# Altium footprint library 3.贴片芯片封装.PcbLib: 26 footprints (part 2 of 2)
Each footprint in its own frame and in the unit in brackets; x right, y up, seen from the top. Pads: shape width x height; smd on the part's side, far side on the other; paste and mask are expansions set on the pad; w line width, h text height; cw(c..) or ccw(c..) is an arc to the next point about the centre after c.
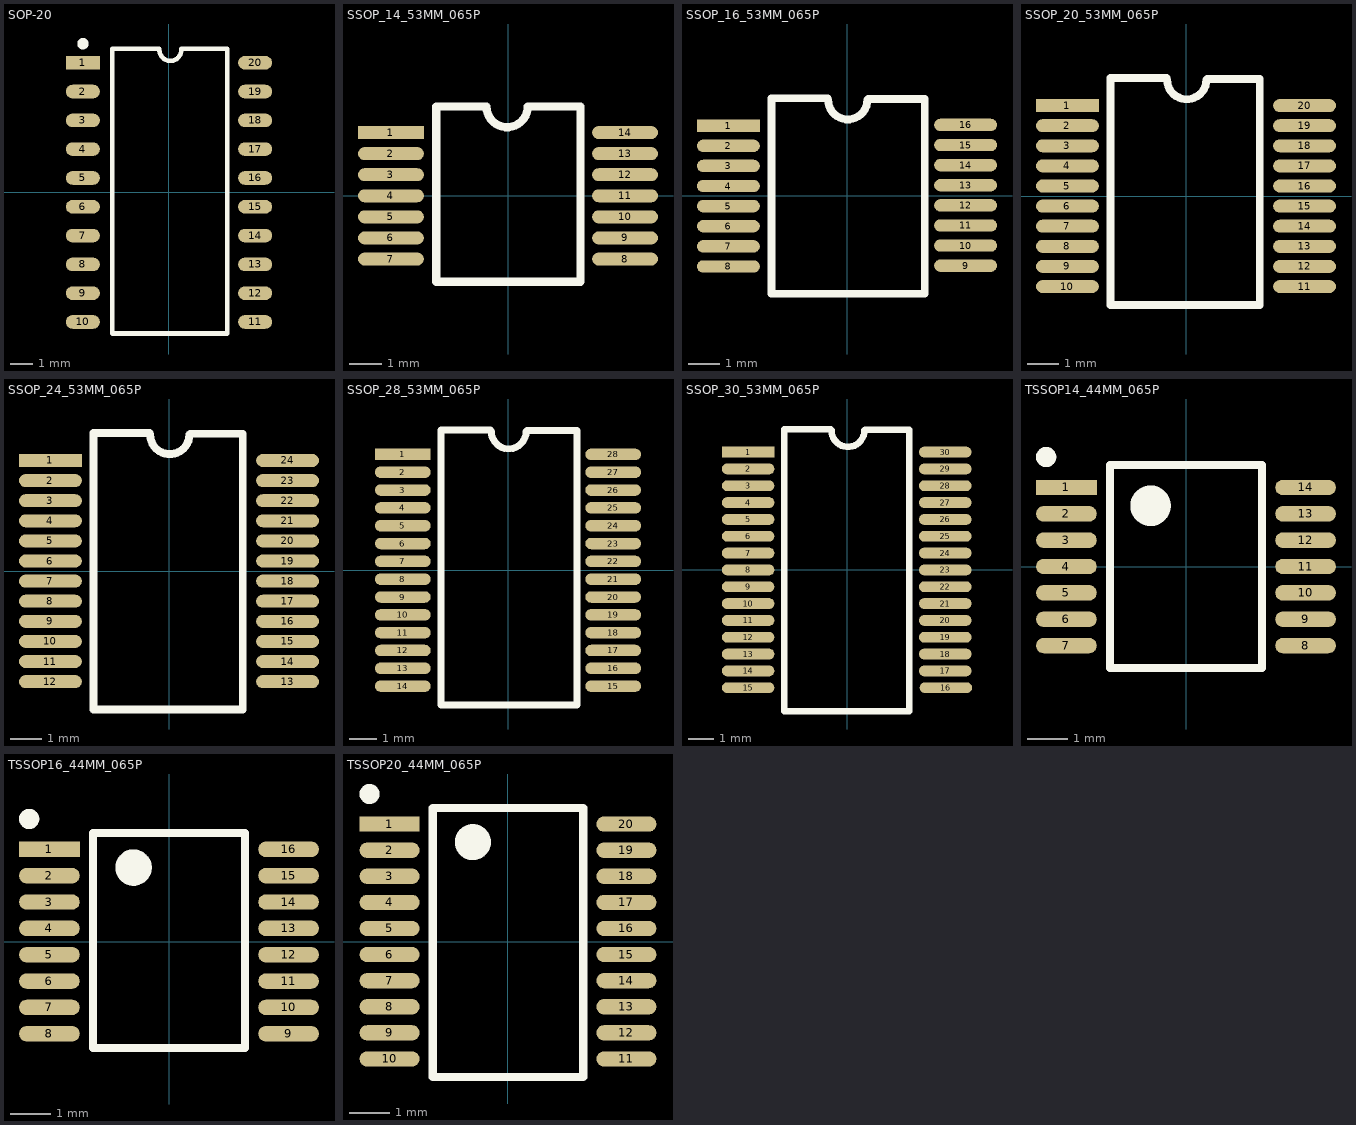
[diagram p1: the footprints below, top view; thin cyan lines are the x and y axes]

## SOP-20 [mm]
pads (20):
  rect 1.5x0.6 smd: 1(-3.8,5.715)
  oval 1.5x0.6 smd: 2(-3.8,4.445) 3(-3.8,3.175) 4(-3.8,1.905) 5(-3.8,0.635) 6(-3.8,-0.635) 7(-3.8,-1.905) 8(-3.8,-3.175) 9(-3.8,-4.445) 10(-3.8,-5.715) 11(3.8,-5.715) 12(3.8,-4.445) 13(3.8,-3.175) 14(3.8,-1.905) 15(3.8,-0.635) 16(3.8,0.635) 17(3.8,1.905) 18(3.8,3.175) 19(3.8,4.445) 20(3.8,5.715)
Top Overlay:
  circle w0.25: c-3.795,6.553 r0.125
  lines w0.2: -0.422,6.299 ccw(c0.061,6.278) 0.543,6.299 ; -0.422,6.325 -2.505,6.325 -2.505,-6.223 2.575,-6.223 2.575,6.325 0.543,6.325

## SSOP_14_53MM_065P [mm]
pads (14):
  rect 2.032x0.4 smd: 1(-3.61,1.95)
  oval 2.032x0.4 smd: 2(-3.61,1.3) 3(-3.61,0.65) 4(-3.61,0) 5(-3.61,-0.65) 6(-3.61,-1.3) 7(-3.61,-1.95) 8(3.61,-1.95) 9(3.61,-1.3) 10(3.61,-0.65) 11(3.61,0) 12(3.61,0.65) 13(3.61,1.3) 14(3.61,1.95)
Top Overlay:
  lines w0.254: -2.215,2.75 -0.663,2.75 ccw(c-0.028,2.75) 0.607,2.75 ; -2.213,-2.65 -2.213,2.75 ; -2.208,-2.65 2.232,-2.65 2.232,2.75 0.637,2.75

## SSOP_16_53MM_065P [mil]
pads (16):
  rect 80x15.75 smd: 1(-151,89.1)
  oval 80x15.75 smd: 2(-151,63.5) 3(-151,37.9) 4(-151,12.3) 5(-151,-13.3) 6(-151,-38.9) 7(-151,-64.5) 8(-151,-90.1) 9(151,-89.1) 10(151,-63.5) 11(151,-37.9) 12(151,-12.3) 13(151,13.3) 14(151,38.9) 15(151,64.5) 16(151,90.1)
Top Overlay:
  lines w10: -25,124.1 -96,124.1 -96,-124.9 99,-124.9 99,123.1 27,123.1 ; -24,122.1 ccw(c1,122.1) 26,122.1

## SSOP_20_53MM_065P [mil]
pads (20):
  rect 80x16.54 smd: 1(-151,115.2)
  oval 80x16.54 smd: 2(-151,89.6) 3(-151,64) 4(-151,38.4) 5(-151,12.8) 6(-151,-12.8) 7(-151,-38.4) 8(-151,-64) 9(-151,-89.6) 10(-151,-115.2) 11(151,-115.2) 12(151,-89.6) 13(151,-64) 14(151,-38.4) 15(151,-12.8) 16(151,12.8) 17(151,38.4) 18(151,64) 19(151,89.6) 20(151,115.2)
Top Overlay:
  lines w10: -25,150.2 -96,150.2 -96,-138.8 94,-138.8 94,149.2 27,149.2 ; -24,148.2 ccw(c1,148.2) 26,148.2

## SSOP_24_53MM_065P [mil]
pads (24):
  rect 80x16.54 smd: 1(-151,140.8)
  oval 80x16.54 smd: 2(-151,115.2) 3(-151,89.6) 4(-151,64) 5(-151,38.4) 6(-151,12.8) 7(-151,-12.8) 8(-151,-38.4) 9(-151,-64) 10(-151,-89.6) 11(-151,-115.2) 12(-151,-140.8) 13(151,-140.8) 14(151,-115.2) 15(151,-89.6) 16(151,-64) 17(151,-38.4) 18(151,-12.8) 19(151,12.8) 20(151,38.4) 21(151,64) 22(151,89.6) 23(151,115.2) 24(151,140.8)
Top Overlay:
  lines w10: -25,175.8 -96,175.8 -96,-176.2 94,-176.2 94,174.8 27,174.8 ; -24,173.8 ccw(c1,173.8) 26,173.8

## SSOP_28_53MM_065P [mil]
pads (28):
  rect 80x16.54 smd: 1(-151,166.4)
  oval 80x16.54 smd: 2(-151,140.8) 3(-151,115.2) 4(-151,89.6) 5(-151,64) 6(-151,38.4) 7(-151,12.8) 8(-151,-12.8) 9(-151,-38.4) 10(-151,-64) 11(-151,-89.6) 12(-151,-115.2) 13(-151,-140.8) 14(-151,-166.4) 15(151,-166.4) 16(151,-140.8) 17(151,-115.2) 18(151,-89.6) 19(151,-64) 20(151,-38.4) 21(151,-12.8) 22(151,12.8) 23(151,38.4) 24(151,64) 25(151,89.6) 26(151,115.2) 27(151,140.8) 28(151,166.4)
Top Overlay:
  lines w10: -25,201.4 -96,201.4 -96,-193.6 99,-193.6 99,200.4 27,200.4 ; -24,199.4 ccw(c1,199.4) 26,199.4

## SSOP_30_53MM_065P [mil]
pads (30):
  rect 80x16.54 smd: 1(-150.5,179.2)
  oval 80x16.54 smd: 2(-150.5,153.6) 3(-150.5,128) 4(-150.5,102.4) 5(-150.5,76.8) 6(-150.5,51.2) 7(-150.5,25.6) 8(-150.5,0) 9(-150.5,-25.6) 10(-150.5,-51.2) 11(-150.5,-76.8) 12(-150.5,-102.4) 13(-150.5,-128) 14(-150.5,-153.6) 15(-150.5,-179.2) 16(150.5,-179.2) 17(149.5,-153.6) 18(149.5,-128) 19(149.5,-102.4) 20(149.5,-76.8) 21(149.5,-51.2) 22(149.5,-25.6) 23(149.5,0) 24(149.5,25.6) 25(149.5,51.2) 26(149.5,76.8) 27(149.5,102.4) 28(149.5,128) 29(149.5,153.6) 30(149.5,179.2)
Top Overlay:
  lines w10: -24.5,214.2 -95.5,214.2 -95.5,-214.8 94.5,-214.8 94.5,213.2 27.5,213.2 ; -23.5,212.2 ccw(c1.5,212.2) 26.5,212.2

## TSSOP14_44MM_065P [mm]
pads (14):
  rect 1.5x0.38 smd: 1(-2.95,1.95)
  oval 1.5x0.38 smd: 2(-2.95,1.3) 3(-2.95,0.65) 4(-2.95,0) 5(-2.95,-0.65) 6(-2.95,-1.3) 7(-2.95,-1.95) 8(2.95,-1.95) 9(2.95,-1.3) 10(2.95,-0.65) 11(2.95,0) 12(2.95,0.65) 13(2.95,1.3) 14(2.95,1.95)
Top Overlay:
  circle w0.5: c-0.875,1.5 r0.25
  circle w0.25: c-3.45,2.7 r0.125
  lines w0.2: -1.875,-2.5 1.875,-2.5 1.875,2.5 -1.875,2.5 -1.875,-2.5

## TSSOP16_44MM_065P [mm]
pads (16):
  rect 1.5x0.38 smd: 1(-2.95,2.275)
  oval 1.5x0.38 smd: 2(-2.95,1.625) 3(-2.95,0.975) 4(-2.95,0.325) 5(-2.95,-0.325) 6(-2.95,-0.975) 7(-2.95,-1.625) 8(-2.95,-2.275) 9(2.95,-2.275) 10(2.95,-1.625) 11(2.95,-0.975) 12(2.95,-0.325) 13(2.95,0.325) 14(2.95,0.975) 15(2.95,1.625) 16(2.95,2.275)
Top Overlay:
  circle w0.25: c-3.45,3.025 r0.125
  circle w0.5: c-0.875,1.825 r0.2
  lines w0.2: -1.875,-2.625 -1.875,2.675 1.875,2.675 1.875,-2.625 -1.875,-2.625

## TSSOP20_44MM_065P [mm]
pads (20):
  rect 1.5x0.38 smd: 1(-2.95,2.925)
  oval 1.5x0.38 smd: 2(-2.95,2.275) 3(-2.95,1.625) 4(-2.95,0.975) 5(-2.95,0.325) 6(-2.95,-0.325) 7(-2.95,-0.975) 8(-2.95,-1.625) 9(-2.95,-2.275) 10(-2.95,-2.925) 11(2.95,-2.925) 12(2.95,-2.275) 13(2.95,-1.625) 14(2.95,-0.975) 15(2.95,-0.325) 16(2.95,0.325) 17(2.95,0.975) 18(2.95,1.625) 19(2.95,2.275) 20(2.95,2.925)
Top Overlay:
  circle w0.25: c-3.45,3.675 r0.125
  circle w0.5: c-0.875,2.475 r0.2
  lines w0.2: -1.875,-3.374 -1.875,3.325 1.875,3.325 1.875,-3.374 -1.875,-3.374